# Altium schematic symbol library Header 12.SchLib: 1 symbol
Pins are listed as number, name and electrical type; pins without a type are passive.

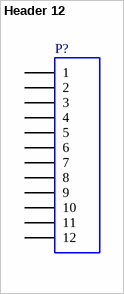
[diagram p0: symbol Header 12]

## Header 12
designator P?
Header, 12-Pin
pins: 1, 2, 3, 4, 5, 6, 7, 8, 9, 10, 11, 12